# Altium schematic symbol library termometr.SchLib: 4 symbols
Pins are listed as number, name and electrical type; pins without a type are passive.

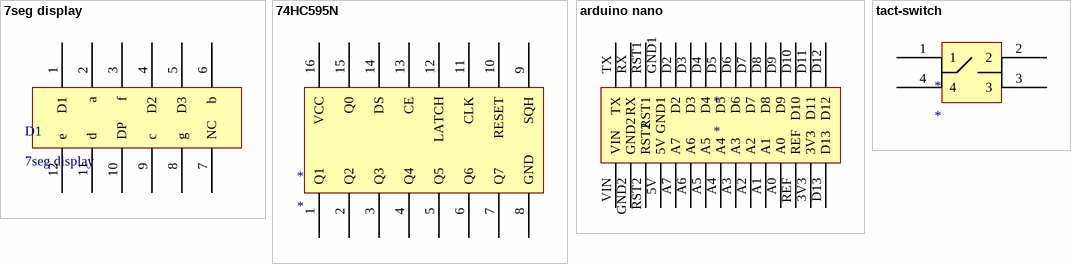
[diagram p0: symbols 7seg display to tact-switch]

## 7seg display
designator D1
footprint 7seg display (Wyświetlacz siedmiosegmentowy 3-cyfrowy)
pins: 1 D1, 2 a, 3 f, 4 D2, 5 D3, 6 b, 7 NC, 8 g, 9 c, 10 DP, 11 d, 12 e

## 74HC595N
designator *
footprint 74HC595N
pins: 1 Q1, 2 Q2, 3 Q3, 4 Q4, 5 Q5, 6 Q6, 7 Q7, 8 GND, 9 SQH, 10 RESET, 11 CLK, 12 LATCH, 13 CE, 14 DS, 15 Q0, 16 VCC

## arduino nano
designator *
footprint arduino nano
pins: 3V3, 5V, A0, A1, A2, A3, A4, A5, A6, A7, D2, D3, D4, D5, D6, D7, D8, D9, D10, D11, D12, D13, GND1, GND2, REF, RST1, RST2, RX, TX, VIN

## tact-switch
designator *
footprint tact-switch
pins: 1, 2, 3, 4